# EAGLE library part LEDDIMX8 (library omcArduinoLib)
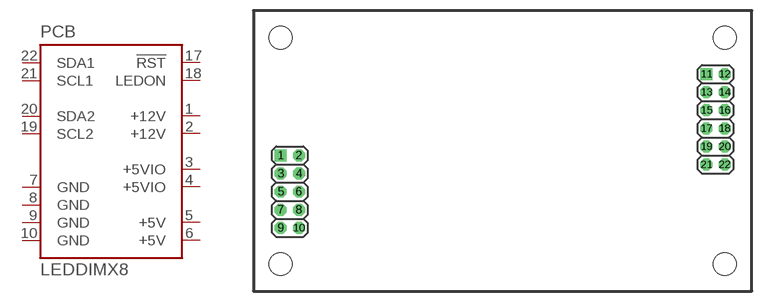
[diagram p1: symbol with the pads of FOOT70X40; footprint FOOT70X40]

Designator prefix PCB

## LEDDIMX8  [FOOT70X40]
1  +12V  pwr
2  +12V  pwr
3  +5VIO  pwr
4  +5VIO  pwr
5  +5V  pwr
6  +5V  pwr
7  GND  pwr
8  GND  pwr
9  GND  pwr
10  GND  pwr
17  !RST  in
18  LEDON  in
19  SCL2
20  SDA2
21  SCL1
22  SDA1

## Footprint FOOT70X40 (pad centres in mm)
Footprint for 70x40mm Arduino OMC Shield
drill 1 pad 1.672 square: 1 3.81,19.05; 11 63.5,30.48
drill 1 pad 1.672 octagon: 2 6.35,19.05; 3 3.81,16.51; 4 6.35,16.51; 5 3.81,13.97; 6 6.35,13.97; 7 3.81,11.43; 8 6.35,11.43; 9 3.81,8.89; 10 6.35,8.89; 12 66.04,30.48; 13 63.5,27.94; 14 66.04,27.94; 15 63.5,25.4; 16 66.04,25.4; 17 63.5,22.86; 18 66.04,22.86; 19 63.5,20.32; 20 66.04,20.32; 21 63.5,17.78; 22 66.04,17.78
hole 3.2 at 3.81,35.56
hole 3.2 at 3.81,3.81
hole 3.2 at 66.04,3.81
hole 3.2 at 66.04,35.56